# Altium footprint library 100 nF Ceramic Capacitor THT.PcbLib: 1 footprints
Each footprint in its own frame and in the unit in brackets; x right, y up, seen from the top. Pads: shape width x height; smd on the part's side, far side on the other; paste and mask are expansions set on the pad; w line width, h text height; cw(c..) or ccw(c..) is an arc to the next point about the centre after c.
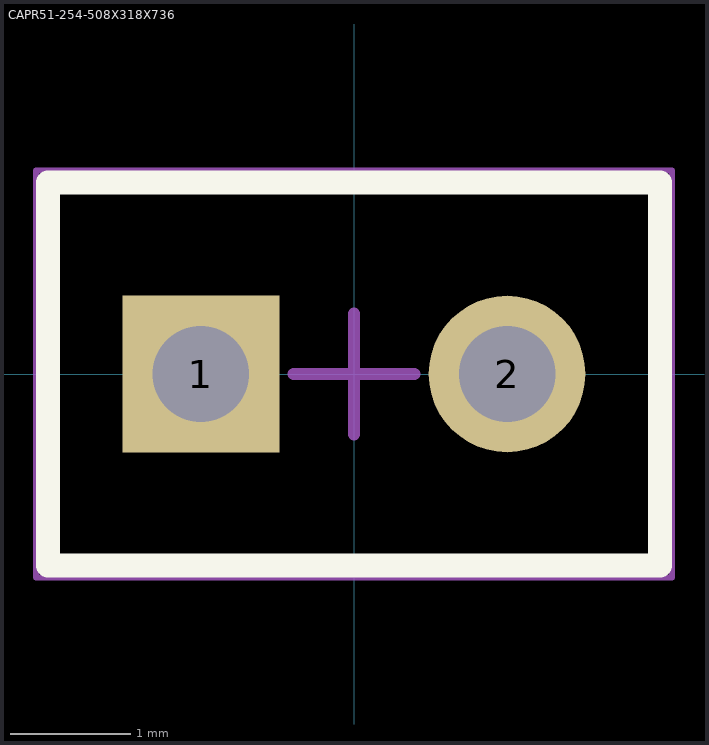
[diagram p0: the footprint, top view; thin cyan lines are the x and y axes]

## CAPR51-254-508X318X736 [mm] "THD, 2-Leads, Body 5.08x3.18mm"
height 7.36
pads (2):
  rect 1.3x1.3 hole 0.8: 1(-1.27,0)
  round 1.3 hole 0.8: 2(1.27,0)
Top Overlay:
  lines w0.2: -2.54,-1.59 2.54,-1.59 2.54,1.59 -2.54,1.59 -2.54,-1.59
Mechanical 13:
  lines w0.1: -2.54,-1.59 -2.54,1.59 2.54,1.59 2.54,-1.59 -2.54,-1.59
Mechanical 15:
  lines w0.05: -2.64,-1.69 2.64,-1.69 2.64,1.69 -2.64,1.69 -2.64,-1.69
  lines w0.1: -0.5,0 0.5,0 ; 0,-0.5 0,0.5
3D body: height 6, standoff -1, extent 0.973,-0.299 1.57,0.3
3D body: height 6, standoff -1, extent -1.567,-0.299 -0.97,0.3
3D body: height 7.36, standoff 0, extent -2.54,-1.59 2.54,1.59